# Altium integrated library NXP Semiconductors Standard MOSFETs.IntLib: 477 symbols (part 1 of 14)
Pins are listed as number, name and electrical type; pins without a type are passive.

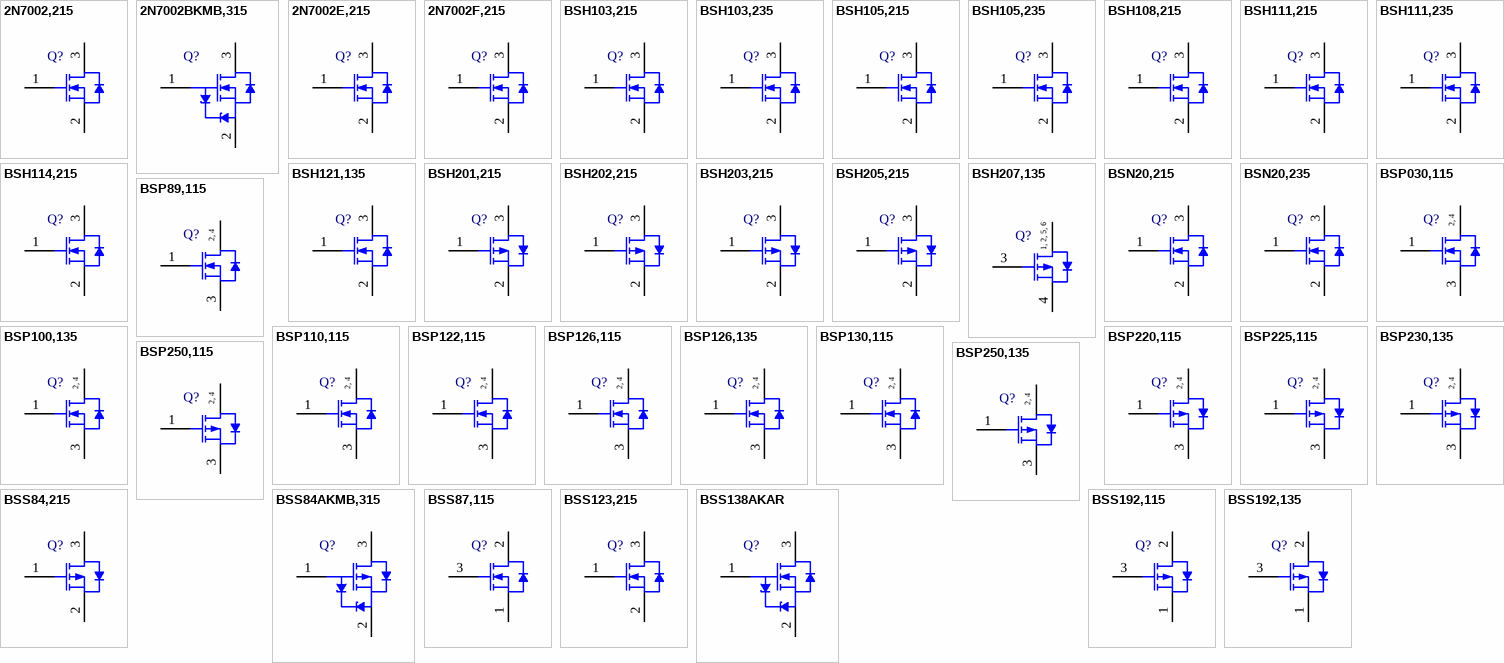
[diagram p0: symbols 2N7002,215 to BSS192,135]

## 2N7002,215
designator Q?
N-Channel Trench MOSFET, 60 V, 0.3 A, 3-Pin SOT23, Tape and Reel; Manufacturer: NXP Semiconductors; PartNumber: 2N7002,215; Channel Type: N; Ciss [typ] (pF): 31; Coss [typ] (pF): 6.8; ID [max] (A): 0.3; Packing: Tape & Reel; Qr [typ] (nC): 30; VDS [max] (V): 60; VGSth [typ] (V): 2; DatasheetVersion: Rev. 7; PackageVersion: 06-03-16, 03/2006; PackageReference: SOT23; PackageDescription: 3-Pin Small Outline Transistor Package, Body 2.9 x 1.3 mm, Pitch 0.95 mm; Supplier 1: Digi-Key; Supplier Part Number 1: 568-1369-2-ND; Supplier 2: Digi-Key; Supplier Part Number 2: 568-1369-1-ND; Supplier 3: Digi-Key; Supplier Part Number 3: 568-1369-6-ND; Supplier 4: Farnell; Supplier Part Number 4: 2315576; Supplier 5: Farnell; Supplier Part Number 5: 1510761; Supplier 6: Farnell; Supplier Part Number 6: 1510761RL; Supplier 7: Newark; Supplier Part Number 7: 75R4879; Supplier 8: Newark; Supplier Part Number 8: 70R9742; Supplier 9: Mouser; Supplier Part Number 9: 771-2N7002-T/R; Mounting Technology: Surface Mount; Code_JEDEC: TO-236AB; ComponentLink1Description: Manufacturer URL; ComponentLink1URL: http://www.nxp.com/; ComponentLink2Description: Datasheet; ComponentLink2URL: http://www.nxp.com/documents/data_sheet/2N7002.pdf; ComponentLink3Description: Package Specification; ComponentLink3URL: http://www.nxp.com/documents/outline_drawing/sot023_po.pdf
footprint NXP-SOT23_N (SOT23, 3-Leads, Body 3x1.4mm, Pitch 0.95mm, IPC Medium Density)
footprint NXP-SOT23_L (SOT23, 3-Leads, Body 3x1.4mm, Pitch 0.95mm, IPC High Density)
footprint NXP-SOT23_M (SOT23, 3-Leads, Body 3x1.4mm, Pitch 0.95mm, IPC Low Density)
pins: 1 G "gate", 2 S "source", 3 D "drain"

## 2N7002BKMB,315
designator Q?
Single N-Channel Trench MOSFET, 60 V, 0.45 A, -55 to 150 degC, 3-Pin SOT883B, Reel; Manufacturer: NXP Semiconductors; PartNumber: 2N7002BKMB,315; Channel Type: N; Ciss [typ] (pF): 33; Coss [typ] (pF): 7; ID [max] (A): 0.45; VDS [max] (V): 60; VGSth [typ] (V): 1.6; DatasheetVersion: Rev. 2; PackageVersion: 12-01-03, 01/2012; PackageReference: SOT883B; PackageDescription: 3-Pin Small Outline No-Lead, Body 0.6 x 1 mm, Pitch 0.35 mm; Supplier 1: Digi-Key; Supplier Part Number 1: 568-10438-2-ND; Supplier 2: Digi-Key; Supplier Part Number 2: 568-10438-1-ND; Supplier 3: Digi-Key; Supplier Part Number 3: 568-10438-6-ND; Supplier 4: Mouser; Supplier Part Number 4: 771-2N7002BKMB315; Packing: Reel; Mounting Technology: Surface Mount; ComponentLink1Description: Manufacturer URL; ComponentLink1URL: http://www.nxp.com/; ComponentLink2Description: Datasheet; ComponentLink2URL: http://www.nxp.com/documents/data_sheet/2N7002BKMB.pdf; ComponentLink3Description: Package Specification; ComponentLink3URL: http://www.nxp.com/documents/outline_drawing/sot883b_po.pdf
footprint NXP-SOT883B_N (SON, 3-Leads, Body 1.05x0.65mm, Pitch 0.35mm, IPC Medium Density)
footprint NXP-SOT883B_L (SON, 3-Leads, Body 1.05x0.65mm, Pitch 0.35mm, IPC High Density)
footprint NXP-SOT883B_M (SON, 3-Leads, Body 1.05x0.65mm, Pitch 0.35mm, IPC Low Density)
pins: 1 G "gate", 2 S "source", 3 D "drain"

## 2N7002E,215
designator Q?
N-Channel TrenchMOS FET, 60 V, 0.385 A, 3-Pin SOT23, Tape and Reel; Manufacturer: NXP Semiconductors; PartNumber: 2N7002E,215; Channel Type: N; Ciss [typ] (pF): 31; Coss [typ] (pF): 6.8; ID [max] (A): 0.385; Packing: Tape & Reel; Qr [typ] (nC): 30; VDS [max] (V): 60; VGSth [typ] (V): 2; DatasheetVersion: Rev. 03; PackageVersion: 06-03-16, 03/2006; PackageReference: SOT23; PackageDescription: 3-Pin Small Outline Transistor Package, Body 2.9 x 1.3 mm, Pitch 0.95 mm; Supplier 1: Digi-Key; Supplier Part Number 1: 568-4858-2-ND; Supplier 2: Digi-Key; Supplier Part Number 2: 568-4858-1-ND; Supplier 3: Digi-Key; Supplier Part Number 3: 568-4858-6-ND; Supplier 4: Farnell; Supplier Part Number 4: 1894721; Supplier 5: Farnell; Supplier Part Number 5: 2319390; Supplier 6: Farnell; Supplier Part Number 6: 1894721RL; Supplier 7: Newark; Supplier Part Number 7: 75R4880; Supplier 8: Newark; Supplier Part Number 8: 70R9744; Supplier 9: Mouser; Supplier Part Number 9: 771-2N7002E-T/R; Mounting Technology: Surface Mount; Code_JEDEC: TO-236AB; ComponentLink1Description: Manufacturer URL; ComponentLink1URL: http://www.nxp.com/; ComponentLink2Description: Datasheet; ComponentLink2URL: http://www.nxp.com/documents/data_sheet/2N7002E.pdf; ComponentLink3Description: Package Specification; ComponentLink3URL: http://www.nxp.com/documents/outline_drawing/sot023_po.pdf
footprint NXP-SOT23_N (SOT23, 3-Leads, Body 3x1.4mm, Pitch 0.95mm, IPC Medium Density)
footprint NXP-SOT23_L (SOT23, 3-Leads, Body 3x1.4mm, Pitch 0.95mm, IPC High Density)
footprint NXP-SOT23_M (SOT23, 3-Leads, Body 3x1.4mm, Pitch 0.95mm, IPC Low Density)
pins: 1 G "gate", 2 S "source", 3 D "drain"

## 2N7002F,215
designator Q?
N-Channel TrenchMOS FET, 60 V, 0.475 A, 3-Pin SOT23, Tape and Reel; Manufacturer: NXP Semiconductors; PartNumber: 2N7002F,215; Channel Type: N; Ciss [typ] (pF): 31; Coss [typ] (pF): 6.8; ID [max] (A): 0.475; Packing: Tape & Reel; Qr [typ] (nC): 30; VDS [max] (V): 60; VGSth [typ] (V): 2; DatasheetVersion: Rev. 03; PackageVersion: 06-03-16, 03/2006; PackageReference: SOT23; PackageDescription: 3-Pin Small Outline Transistor Package, Body 2.9 x 1.3 mm, Pitch 0.95 mm; Supplier 1: Digi-Key; Supplier Part Number 1: 568-5983-2-ND; Supplier 2: Digi-Key; Supplier Part Number 2: 568-5983-1-ND; Supplier 3: Digi-Key; Supplier Part Number 3: 568-5983-6-ND; Supplier 4: Newark; Supplier Part Number 4: 75R4881; Supplier 5: Newark; Supplier Part Number 5: 70R9745; Supplier 6: Mouser; Supplier Part Number 6: 771-2N7002F-T/R; Mounting Technology: Surface Mount; Code_JEDEC: TO-236AB; ComponentLink1Description: Manufacturer URL; ComponentLink1URL: http://www.nxp.com/; ComponentLink2Description: Datasheet; ComponentLink2URL: http://www.nxp.com/documents/data_sheet/2N7002F.pdf; ComponentLink3Description: Package Specification; ComponentLink3URL: http://www.nxp.com/documents/outline_drawing/sot023_po.pdf
footprint NXP-SOT23_N (SOT23, 3-Leads, Body 3x1.4mm, Pitch 0.95mm, IPC Medium Density)
footprint NXP-SOT23_L (SOT23, 3-Leads, Body 3x1.4mm, Pitch 0.95mm, IPC High Density)
footprint NXP-SOT23_M (SOT23, 3-Leads, Body 3x1.4mm, Pitch 0.95mm, IPC Low Density)
pins: 1 G "gate", 2 S "source", 3 D "drain"

## BSH103,215
designator Q?
N-Channel Enhancement Mode MOS Transistor, 30 V, 0.85 A, 3-Pin SOT23, Tape and Reel; Manufacturer: NXP Semiconductors; PartNumber: BSH103,215; Channel Type: N; Ciss [typ] (pF): 83; Coss [typ] (pF): 27; ID [max] (A): 0.85; Packing: Tape & Reel; VDS [max] (V): 30; PackageVersion: 06-03-16, 03/2006; PackageReference: SOT23; PackageDescription: 3-Pin Small Outline Transistor Package, Body 2.9 x 1.3 mm, Pitch 0.95 mm; Supplier 1: Digi-Key; Supplier Part Number 1: 568-5013-2-ND; Supplier 2: Digi-Key; Supplier Part Number 2: 568-5013-1-ND; Supplier 3: Digi-Key; Supplier Part Number 3: 568-5013-6-ND; Supplier 4: Farnell; Supplier Part Number 4: 2336818; Supplier 5: Newark; Supplier Part Number 5: 75R4687; Supplier 6: Newark; Supplier Part Number 6: 70R2910; Supplier 7: Mouser; Supplier Part Number 7: 771-BSH103-T/R; Mounting Technology: Surface Mount; Code_JEDEC: TO-236AB; ComponentLink1Description: Manufacturer URL; ComponentLink1URL: http://www.nxp.com/; ComponentLink2Description: Datasheet; ComponentLink2URL: http://www.nxp.com/documents/data_sheet/BSH103.pdf; ComponentLink3Description: Package Specification; ComponentLink3URL: http://www.nxp.com/documents/outline_drawing/sot023_po.pdf
footprint NXP-SOT23_N (SOT23, 3-Leads, Body 3x1.4mm, Pitch 0.95mm, IPC Medium Density)
footprint NXP-SOT23_L (SOT23, 3-Leads, Body 3x1.4mm, Pitch 0.95mm, IPC High Density)
footprint NXP-SOT23_M (SOT23, 3-Leads, Body 3x1.4mm, Pitch 0.95mm, IPC Low Density)
pins: 1 G "gate", 2 S "source", 3 D "drain"

## BSH103,235
designator Q?
N-Channel Enhancement Mode MOS Transistor, 30 V, 0.85 A, 3-Pin SOT23, Tape and Reel; Manufacturer: NXP Semiconductors; PartNumber: BSH103,235; Channel Type: N; Ciss [typ] (pF): 83; Coss [typ] (pF): 27; ID [max] (A): 0.85; Packing: Tape & Reel; VDS [max] (V): 30; PackageVersion: 06-03-16, 03/2006; PackageReference: SOT23; PackageDescription: 3-Pin Small Outline Transistor Package, Body 2.9 x 1.3 mm, Pitch 0.95 mm; Supplier 1: Digi-Key; Supplier Part Number 1: BSH103,235-ND; Supplier 2: Newark; Supplier Part Number 2: 70R2911; Supplier 3: Mouser; Supplier Part Number 3: 771-BSH103235; Mounting Technology: Surface Mount; Code_JEDEC: TO-236AB; ComponentLink1Description: Manufacturer URL; ComponentLink1URL: http://www.nxp.com/; ComponentLink2Description: Datasheet; ComponentLink2URL: http://www.nxp.com/documents/data_sheet/BSH103.pdf; ComponentLink3Description: Package Specification; ComponentLink3URL: http://www.nxp.com/documents/outline_drawing/sot023_po.pdf
footprint NXP-SOT23_N (SOT23, 3-Leads, Body 3x1.4mm, Pitch 0.95mm, IPC Medium Density)
footprint NXP-SOT23_L (SOT23, 3-Leads, Body 3x1.4mm, Pitch 0.95mm, IPC High Density)
footprint NXP-SOT23_M (SOT23, 3-Leads, Body 3x1.4mm, Pitch 0.95mm, IPC Low Density)
pins: 1 G "gate", 2 S "source", 3 D "drain"

## BSH105,215
designator Q?
N-Channel Enhancement Mode MOS Transistor, 20 V, 1.05 A, -55 to 150 degC, 3-Pin SOT23, Tape and Reel; Manufacturer: NXP Semiconductors; PartNumber: BSH105,215; Channel Type: N; Ciss [typ] (pF): 152; Coss [typ] (pF): 71; ID [max] (A): 1.05; Packing: Tape & Reel; Qr [typ] (nC): 19; VDS [max] (V): 20; VGSth [typ] (V): 0.57; DatasheetVersion: Rev. 1.000; PackageVersion: 06-03-16, 03/2006; PackageReference: SOT23; PackageDescription: 3-Pin Small Outline Transistor Package, Body 2.9 x 1.3 mm, Pitch 0.95 mm; Supplier 1: Digi-Key; Supplier Part Number 1: 568-6215-2-ND; Supplier 2: Digi-Key; Supplier Part Number 2: 568-6215-1-ND; Supplier 3: Digi-Key; Supplier Part Number 3: 568-6215-6-ND; Supplier 4: Farnell; Supplier Part Number 4: 1758066; Supplier 5: Farnell; Supplier Part Number 5: 1758066RL; Supplier 6: Farnell; Supplier Part Number 6: 2371069; Supplier 7: Farnell; Supplier Part Number 7: 2395532; Supplier 8: Newark; Supplier Part Number 8: 79R1829; Supplier 9: Newark; Supplier Part Number 9: 70R2912; Supplier 10: Mouser; Supplier Part Number 10: 771-BSH105215; Mounting Technology: Surface Mount; Code_JEDEC: TO-236AB; ComponentLink1Description: Manufacturer URL; ComponentLink1URL: http://www.nxp.com/; ComponentLink2Description: Datasheet; ComponentLink2URL: http://www.nxp.com/documents/data_sheet/BSH105.pdf; ComponentLink3Description: Package Specification; ComponentLink3URL: http://www.nxp.com/documents/outline_drawing/sot023_po.pdf
footprint NXP-SOT23_N (SOT23, 3-Leads, Body 3x1.4mm, Pitch 0.95mm, IPC Medium Density)
footprint NXP-SOT23_L (SOT23, 3-Leads, Body 3x1.4mm, Pitch 0.95mm, IPC High Density)
footprint NXP-SOT23_M (SOT23, 3-Leads, Body 3x1.4mm, Pitch 0.95mm, IPC Low Density)
pins: 1 G "gate", 2 S "source", 3 D "drain"

## BSH105,235
designator Q?
N-Channel Enhancement Mode MOS Transistor, 20 V, 1.05 A, -55 to 150 degC, 3-Pin SOT23, Tape and Reel; Manufacturer: NXP Semiconductors; PartNumber: BSH105,235; Channel Type: N; Ciss [typ] (pF): 152; Coss [typ] (pF): 71; ID [max] (A): 1.05; Packing: Tape & Reel; Qr [typ] (nC): 19; VDS [max] (V): 20; VGSth [typ] (V): 0.57; DatasheetVersion: Rev. 1.000; PackageVersion: 06-03-16, 03/2006; PackageReference: SOT23; PackageDescription: 3-Pin Small Outline Transistor Package, Body 2.9 x 1.3 mm, Pitch 0.95 mm; Supplier 1: Digi-Key; Supplier Part Number 1: BSH105,235-ND; Supplier 2: Newark; Supplier Part Number 2: 70R2913; Supplier 3: Mouser; Supplier Part Number 3: 771-BSH105235; Mounting Technology: Surface Mount; Code_JEDEC: TO-236AB; ComponentLink1Description: Manufacturer URL; ComponentLink1URL: http://www.nxp.com/; ComponentLink2Description: Datasheet; ComponentLink2URL: http://www.nxp.com/documents/data_sheet/BSH105.pdf; ComponentLink3Description: Package Specification; ComponentLink3URL: http://www.nxp.com/documents/outline_drawing/sot023_po.pdf
footprint NXP-SOT23_N (SOT23, 3-Leads, Body 3x1.4mm, Pitch 0.95mm, IPC Medium Density)
footprint NXP-SOT23_L (SOT23, 3-Leads, Body 3x1.4mm, Pitch 0.95mm, IPC High Density)
footprint NXP-SOT23_M (SOT23, 3-Leads, Body 3x1.4mm, Pitch 0.95mm, IPC Low Density)
pins: 1 G "gate", 2 S "source", 3 D "drain"

## BSH108,215
designator Q?
N-Channel Enhancement Mode Field-Effect Transistor, 30 V, 1.9 A, 3-Pin SOT23, Tape and Reel; Manufacturer: NXP Semiconductors; PartNumber: BSH108,215; Channel Type: N; Ciss [typ] (pF): 190; Coss [typ] (pF): 70; ID [max] (A): 1.9; Packing: Tape & Reel; Qr [typ] (nC): 20; VDS [max] (V): 30; VGSth [typ] (V): 1.5; DatasheetVersion: Rev. 02; PackageVersion: 06-03-16, 03/2006; PackageReference: SOT23; PackageDescription: 3-Pin Small Outline Transistor Package, Body 2.9 x 1.3 mm, Pitch 0.95 mm; Supplier 1: Digi-Key; Supplier Part Number 1: 568-6216-2-ND; Supplier 2: Digi-Key; Supplier Part Number 2: 568-6216-1-ND; Supplier 3: Digi-Key; Supplier Part Number 3: 568-6216-6-ND; Supplier 4: Farnell; Supplier Part Number 4: 1758067; Supplier 5: Farnell; Supplier Part Number 5: 1758067RL; Supplier 6: Farnell; Supplier Part Number 6: 2371070; Supplier 7: Farnell; Supplier Part Number 7: 2134830; Supplier 8: Newark; Supplier Part Number 8: 75R4688; Supplier 9: Newark; Supplier Part Number 9: 70R2914; Supplier 10: Mouser; Supplier Part Number 10: 771-BSH108215; Mounting Technology: Surface Mount; Code_JEDEC: TO-236AB; ComponentLink1Description: Manufacturer URL; ComponentLink1URL: http://www.nxp.com/; ComponentLink2Description: Datasheet; ComponentLink2URL: http://www.nxp.com/documents/data_sheet/BSH108.pdf; ComponentLink3Description: Package Specification; ComponentLink3URL: http://www.nxp.com/documents/outline_drawing/sot023_po.pdf
footprint NXP-SOT23_N (SOT23, 3-Leads, Body 3x1.4mm, Pitch 0.95mm, IPC Medium Density)
footprint NXP-SOT23_L (SOT23, 3-Leads, Body 3x1.4mm, Pitch 0.95mm, IPC High Density)
footprint NXP-SOT23_M (SOT23, 3-Leads, Body 3x1.4mm, Pitch 0.95mm, IPC Low Density)
pins: 1 G "gate", 2 S "source", 3 D "drain"

## BSH111,215
designator Q?
N-Channel Enhancement Mode Field-Effect Transistor, 55 V, 0.335 A, 3-Pin SOT23, Tape and Reel; Manufacturer: NXP Semiconductors; PartNumber: BSH111,215; Channel Type: N; Ciss [typ] (pF): 17; Coss [typ] (pF): 7; ID [max] (A): 0.335; Packing: Tape & Reel; Qr [typ] (nC): 30; VDS [max] (V): 55; VGSth [typ] (V): 1; DatasheetVersion: Rev. 02; PackageVersion: 06-03-16, 03/2006; PackageReference: SOT23; PackageDescription: 3-Pin Small Outline Transistor Package, Body 2.9 x 1.3 mm, Pitch 0.95 mm; Supplier 1: Digi-Key; Supplier Part Number 1: 568-1657-2-ND; Supplier 2: Digi-Key; Supplier Part Number 2: 568-1657-1-ND; Supplier 3: Digi-Key; Supplier Part Number 3: 568-1657-6-ND; Supplier 4: Farnell; Supplier Part Number 4: 1510762; Supplier 5: Farnell; Supplier Part Number 5: 1510762RL; Supplier 6: Farnell; Supplier Part Number 6: 2336817; Supplier 7: Farnell; Supplier Part Number 7: 1826006; Supplier 8: Newark; Supplier Part Number 8: 75R4689; Supplier 9: Newark; Supplier Part Number 9: 70R2915; Supplier 10: Mouser; Supplier Part Number 10: 771-BSH111-T/R; Mounting Technology: Surface Mount; Code_JEDEC: TO-236AB; ComponentLink1Description: Manufacturer URL; ComponentLink1URL: http://www.nxp.com/; ComponentLink2Description: Datasheet; ComponentLink2URL: http://www.nxp.com/documents/data_sheet/BSH111.pdf; ComponentLink3Description: Package Specification; ComponentLink3URL: http://www.nxp.com/documents/outline_drawing/sot023_po.pdf
footprint NXP-SOT23_N (SOT23, 3-Leads, Body 3x1.4mm, Pitch 0.95mm, IPC Medium Density)
footprint NXP-SOT23_L (SOT23, 3-Leads, Body 3x1.4mm, Pitch 0.95mm, IPC High Density)
footprint NXP-SOT23_M (SOT23, 3-Leads, Body 3x1.4mm, Pitch 0.95mm, IPC Low Density)
pins: 1 G "gate", 2 S "source", 3 D "drain"

## BSH111,235
designator Q?
N-Channel Enhancement Mode Field-Effect Transistor, 55 V, 0.335 A, 3-Pin SOT23, Tape and Reel; Manufacturer: NXP Semiconductors; PartNumber: BSH111,235; Channel Type: N; Ciss [typ] (pF): 17; Coss [typ] (pF): 7; ID [max] (A): 0.335; Packing: Tape & Reel; Qr [typ] (nC): 30; VDS [max] (V): 55; VGSth [typ] (V): 1; DatasheetVersion: Rev. 02; PackageVersion: 06-03-16, 03/2006; PackageReference: SOT23; PackageDescription: 3-Pin Small Outline Transistor Package, Body 2.9 x 1.3 mm, Pitch 0.95 mm; Supplier 1: Digi-Key; Supplier Part Number 1: BSH111,235-ND; Supplier 2: Newark; Supplier Part Number 2: 70R2916; Supplier 3: Mouser; Supplier Part Number 3: 771-BSH111235; Mounting Technology: Surface Mount; Code_JEDEC: TO-236AB; ComponentLink1Description: Manufacturer URL; ComponentLink1URL: http://www.nxp.com/; ComponentLink2Description: Datasheet; ComponentLink2URL: http://www.nxp.com/documents/data_sheet/BSH111.pdf; ComponentLink3Description: Package Specification; ComponentLink3URL: http://www.nxp.com/documents/outline_drawing/sot023_po.pdf
footprint NXP-SOT23_N (SOT23, 3-Leads, Body 3x1.4mm, Pitch 0.95mm, IPC Medium Density)
footprint NXP-SOT23_L (SOT23, 3-Leads, Body 3x1.4mm, Pitch 0.95mm, IPC High Density)
footprint NXP-SOT23_M (SOT23, 3-Leads, Body 3x1.4mm, Pitch 0.95mm, IPC Low Density)
pins: 1 G "gate", 2 S "source", 3 D "drain"

## BSH114,215
designator Q?
N-Channel Enhancement Mode Field Effect Transistor, 100 V, 3-Pin SOT23, Tape and Reel; Manufacturer: NXP Semiconductors; PartNumber: BSH114,215; Channel Type: N; Ciss [typ] (pF): 138; Coss [typ] (pF): 21; Packing: Tape & Reel; Qr [typ] (nC): 37; VDS [max] (V): 100; VGSth [typ] (V): 3; DatasheetVersion: Rev. 01; PackageVersion: 06-03-16, 03/2006; PackageReference: SOT23; PackageDescription: 3-Pin Small Outline Transistor Package, Body 2.9 x 1.3 mm, Pitch 0.95 mm; Supplier 1: Digi-Key; Supplier Part Number 1: 568-8025-2-ND; Supplier 2: Digi-Key; Supplier Part Number 2: 568-8025-1-ND; Supplier 3: Digi-Key; Supplier Part Number 3: 568-8025-6-ND; Supplier 4: Farnell; Supplier Part Number 4: 1758071; Supplier 5: Farnell; Supplier Part Number 5: 1758071RL; Supplier 6: Newark; Supplier Part Number 6: 79R1830; Supplier 7: Newark; Supplier Part Number 7: 70R2918; Supplier 8: Mouser; Supplier Part Number 8: 771-BSH114215; Mounting Technology: Surface Mount; Code_JEDEC: TO-236AB; ComponentLink1Description: Manufacturer URL; ComponentLink1URL: http://www.nxp.com/; ComponentLink2Description: Datasheet; ComponentLink2URL: http://www.nxp.com/documents/data_sheet/BSH114.pdf; ComponentLink3Description: Package Specification; ComponentLink3URL: http://www.nxp.com/documents/outline_drawing/sot023_po.pdf
footprint NXP-SOT23_N (SOT23, 3-Leads, Body 3x1.4mm, Pitch 0.95mm, IPC Medium Density)
footprint NXP-SOT23_L (SOT23, 3-Leads, Body 3x1.4mm, Pitch 0.95mm, IPC High Density)
footprint NXP-SOT23_M (SOT23, 3-Leads, Body 3x1.4mm, Pitch 0.95mm, IPC Low Density)
pins: 1 G "gate", 2 S "source", 3 D "drain"

## BSH121,135
designator Q?
N-Channel Enhancement Mode Field-Effect Transistor, 55 V, 0.3 A, 3-Pin SOT323, Tape and Reel; Manufacturer: NXP Semiconductors; PartNumber: BSH121,135; Channel Type: N; Ciss [typ] (pF): 17; Coss [typ] (pF): 7; ID [max] (A): 0.3; Packing: Tape & Reel; Qr [typ] (nC): 30; VDS [max] (V): 55; VGSth [typ] (V): 1; DatasheetVersion: Rev. 01; PackageVersion: 06-03-16, 03/2006; PackageReference: SOT323; PackageDescription: 3-Pin Small Outline Transistor Package, Body 2 x 1.25 mm, Pitch 0.65 mm; Supplier 1: Digi-Key; Supplier Part Number 1: 568-11040-1-ND; Supplier 2: Digi-Key; Supplier Part Number 2: 568-11040-6-ND; Supplier 3: Digi-Key; Supplier Part Number 3: 568-11040-2-ND; Supplier 4: Farnell; Supplier Part Number 4: 1758072RL; Supplier 5: Farnell; Supplier Part Number 5: 1758072; Supplier 6: Farnell; Supplier Part Number 6: 2395533; Supplier 7: Newark; Supplier Part Number 7: 79R1831; Supplier 8: Mouser; Supplier Part Number 8: 771-BSH121135; Mounting Technology: Surface Mount; Code_JEITA: SC-70; ComponentLink1Description: Manufacturer URL; ComponentLink1URL: http://www.nxp.com/; ComponentLink2Description: Datasheet; ComponentLink2URL: http://www.nxp.com/documents/data_sheet/BSH121.pdf; ComponentLink3Description: Package Specification; ComponentLink3URL: http://www.nxp.com/documents/outline_drawing/sot323_po.pdf
footprint NXP-SOT323_N (SOT23, 3-Leads, Body 2.2x1.35mm, Pitch 0.65mm, IPC Medium Density)
footprint NXP-SOT323_L (SOT23, 3-Leads, Body 2.2x1.35mm, Pitch 0.65mm, IPC High Density)
footprint NXP-SOT323_M (SOT23, 3-Leads, Body 2.2x1.35mm, Pitch 0.65mm, IPC Low Density)
pins: 1 G "gate", 2 S "source", 3 D "drain"

## BSH201,215
designator Q?
P-Channel Enhancement Mode MOS Transistor, -60 V, -0.3 A, -55 to 150 degC, 3-Pin SOT23, Tape and Reel; Manufacturer: NXP Semiconductors; PartNumber: BSH201,215; Channel Type: P; Ciss [typ] (pF): 70; Coss [typ] (pF): 15; Packing: Tape & Reel; Qr [typ] (nC): 58; VGSth [typ] (V): -1.9; DatasheetVersion: Rev. 1.000; PackageVersion: 06-03-16, 03/2006; PackageReference: SOT23; PackageDescription: 3-Pin Small Outline Transistor Package, Body 2.9 x 1.3 mm, Pitch 0.95 mm; Supplier 1: Digi-Key; Supplier Part Number 1: 568-6217-2-ND; Supplier 2: Digi-Key; Supplier Part Number 2: 568-6217-1-ND; Supplier 3: Digi-Key; Supplier Part Number 3: 568-6217-6-ND; Supplier 4: Farnell; Supplier Part Number 4: 1758073; Supplier 5: Farnell; Supplier Part Number 5: 1758073RL; Supplier 6: Newark; Supplier Part Number 6: 70R2920; Supplier 7: Newark; Supplier Part Number 7: 79R1832; Supplier 8: Newark; Supplier Part Number 8: 34R3012; Supplier 9: Mouser; Supplier Part Number 9: 771-BSH201215; ID [max] (A): -0.3; VDS [max] (V): -60; Mounting Technology: Surface Mount; Code_JEDEC: TO-236AB; ComponentLink1Description: Manufacturer URL; ComponentLink1URL: http://www.nxp.com/; ComponentLink2Description: Datasheet; ComponentLink2URL: http://www.nxp.com/documents/data_sheet/BSH201.pdf; ComponentLink3Description: Package Specification; ComponentLink3URL: http://www.nxp.com/documents/outline_drawing/sot023_po.pdf
footprint NXP-SOT23_N (SOT23, 3-Leads, Body 3x1.4mm, Pitch 0.95mm, IPC Medium Density)
footprint NXP-SOT23_L (SOT23, 3-Leads, Body 3x1.4mm, Pitch 0.95mm, IPC High Density)
footprint NXP-SOT23_M (SOT23, 3-Leads, Body 3x1.4mm, Pitch 0.95mm, IPC Low Density)
pins: 1 G "gate", 2 S "source", 3 D "drain"

## BSH202,215
designator Q?
P-Channel Enhancement Mode MOS Transistor, -30 V, -0.52 A, -55 to 150 degC, 3-Pin SOT23, Tape and Reel; Manufacturer: NXP Semiconductors; PartNumber: BSH202,215; Channel Type: P; Ciss [typ] (pF): 80; Coss [typ] (pF): 27; Packing: Tape & Reel; Qr [typ] (nC): 28; VGSth [typ] (V): -1.9; DatasheetVersion: Rev. 1.000; PackageVersion: 06-03-16, 03/2006; PackageReference: SOT23; PackageDescription: 3-Pin Small Outline Transistor Package, Body 2.9 x 1.3 mm, Pitch 0.95 mm; Supplier 1: Digi-Key; Supplier Part Number 1: 568-8026-2-ND; Supplier 2: Digi-Key; Supplier Part Number 2: 568-8026-1-ND; Supplier 3: Digi-Key; Supplier Part Number 3: 568-8026-6-ND; Supplier 4: Newark; Supplier Part Number 4: 79R1833; Supplier 5: Mouser; Supplier Part Number 5: 771-BSH202215; ID [max] (A): -0.52; VDS [max] (V): -30; Mounting Technology: Surface Mount; Code_JEDEC: TO-236AB; ComponentLink1Description: Manufacturer URL; ComponentLink1URL: http://www.nxp.com/; ComponentLink2Description: Datasheet; ComponentLink2URL: http://www.nxp.com/documents/data_sheet/BSH202.pdf; ComponentLink3Description: Package Specification; ComponentLink3URL: http://www.nxp.com/documents/outline_drawing/sot023_po.pdf
footprint NXP-SOT23_N (SOT23, 3-Leads, Body 3x1.4mm, Pitch 0.95mm, IPC Medium Density)
footprint NXP-SOT23_L (SOT23, 3-Leads, Body 3x1.4mm, Pitch 0.95mm, IPC High Density)
footprint NXP-SOT23_M (SOT23, 3-Leads, Body 3x1.4mm, Pitch 0.95mm, IPC Low Density)
pins: 1 G "gate", 2 S "source", 3 D "drain"

## BSH203,215
designator Q?
P-Channel Enhancement Mode MOS Transistor, -30 V, -0.47 A, -55 to 150 degC, 3-Pin SOT23, Tape and Reel; Manufacturer: NXP Semiconductors; PartNumber: BSH203,215; Channel Type: P; Ciss [typ] (pF): 110; Coss [typ] (pF): 27; Packing: Tape & Reel; Qr [typ] (nC): 28; VGSth [typ] (V): -0.68; DatasheetVersion: Rev. 1.000; PackageVersion: 06-03-16, 03/2006; PackageReference: SOT23; PackageDescription: 3-Pin Small Outline Transistor Package, Body 2.9 x 1.3 mm, Pitch 0.95 mm; Supplier 1: Digi-Key; Supplier Part Number 1: 568-8027-2-ND; Supplier 2: Digi-Key; Supplier Part Number 2: 568-8027-1-ND; Supplier 3: Digi-Key; Supplier Part Number 3: 568-8027-6-ND; Supplier 4: Newark; Supplier Part Number 4: 70R2922; Supplier 5: Newark; Supplier Part Number 5: 79R1834; Supplier 6: Mouser; Supplier Part Number 6: 771-BSH203215; ID [max] (A): -0.47; VDS [max] (V): -30; Mounting Technology: Surface Mount; Code_JEDEC: TO-236AB; ComponentLink1Description: Manufacturer URL; ComponentLink1URL: http://www.nxp.com/; ComponentLink2Description: Datasheet; ComponentLink2URL: http://www.nxp.com/documents/data_sheet/BSH203.pdf; ComponentLink3Description: Package Specification; ComponentLink3URL: http://www.nxp.com/documents/outline_drawing/sot023_po.pdf
footprint NXP-SOT23_N (SOT23, 3-Leads, Body 3x1.4mm, Pitch 0.95mm, IPC Medium Density)
footprint NXP-SOT23_L (SOT23, 3-Leads, Body 3x1.4mm, Pitch 0.95mm, IPC High Density)
footprint NXP-SOT23_M (SOT23, 3-Leads, Body 3x1.4mm, Pitch 0.95mm, IPC Low Density)
pins: 1 G "gate", 2 S "source", 3 D "drain"

## BSH205,215
designator Q?
P-Channel Enhancement Mode MOS Transistor, -12 V, -0.75 A, -55 to 150 degC, 3-Pin SOT23, Tape and Reel; Manufacturer: NXP Semiconductors; PartNumber: BSH205,215; Channel Type: P; Ciss [typ] (pF): 200; Coss [typ] (pF): 95; Packing: Tape & Reel; Qr [typ] (nC): 69; VGSth [typ] (V): -0.68; DatasheetVersion: Rev. 1.000; PackageVersion: 06-03-16, 03/2006; PackageReference: SOT23; PackageDescription: 3-Pin Small Outline Transistor Package, Body 2.9 x 1.3 mm, Pitch 0.95 mm; Supplier 1: Digi-Key; Supplier Part Number 1: 568-8028-2-ND; Supplier 2: Digi-Key; Supplier Part Number 2: 568-8028-1-ND; Supplier 3: Digi-Key; Supplier Part Number 3: 568-8028-6-ND; Supplier 4: Farnell; Supplier Part Number 4: 2101402; Supplier 5: Newark; Supplier Part Number 5: 79R1835; Supplier 6: Mouser; Supplier Part Number 6: 771-BSH205215; ID [max] (A): -0.75; VDS [max] (V): -12; Mounting Technology: Surface Mount; Code_JEDEC: TO-236AB; ComponentLink1Description: Manufacturer URL; ComponentLink1URL: http://www.nxp.com/; ComponentLink2Description: Datasheet; ComponentLink2URL: http://www.nxp.com/documents/data_sheet/BSH205.pdf; ComponentLink3Description: Package Specification; ComponentLink3URL: http://www.nxp.com/documents/outline_drawing/sot023_po.pdf
footprint NXP-SOT23_N (SOT23, 3-Leads, Body 3x1.4mm, Pitch 0.95mm, IPC Medium Density)
footprint NXP-SOT23_L (SOT23, 3-Leads, Body 3x1.4mm, Pitch 0.95mm, IPC High Density)
footprint NXP-SOT23_M (SOT23, 3-Leads, Body 3x1.4mm, Pitch 0.95mm, IPC Low Density)
pins: 1 G "gate", 2 S "source", 3 D "drain"

## BSH207,135
designator Q?
P-Channel Enhancement Mode MOS Transistor, -12 V, -1.52 A, -55 to 150 degC, 6-Pin SOT457, Tape and Reel; Manufacturer: NXP Semiconductors; PartNumber: BSH207,135; Channel Type: P; Ciss [typ] (pF): 500; Coss [typ] (pF): 210; Packing: Tape & Reel; Qr [typ] (nC): 69; VGSth [typ] (V): -0.6; DatasheetVersion: Rev. 1.000; PackageVersion: 06-03-16, 03/2006; PackageReference: SOT457; PackageDescription: 6-Pin Thin Small Outline Package, Body 2.9 x 1.5 mm, Pitch 0.95 mm; Supplier 1: Digi-Key; Supplier Part Number 1: 568-11041-2-ND; Supplier 2: Digi-Key; Supplier Part Number 2: 568-11041-1-ND; Supplier 3: Digi-Key; Supplier Part Number 3: 568-11041-6-ND; Supplier 4: Farnell; Supplier Part Number 4: 1758076; Supplier 5: Farnell; Supplier Part Number 5: 1758076RL; Supplier 6: Newark; Supplier Part Number 6: 79R1836; Supplier 7: Mouser; Supplier Part Number 7: 771-BSH207135; ID [max] (A): -1.52; VDS [max] (V): -12; Mounting Technology: Surface Mount; Code_JEITA: SC-74; ComponentLink1Description: Manufacturer URL; ComponentLink1URL: http://www.nxp.com/; ComponentLink2Description: Datasheet; ComponentLink2URL: http://www.nxp.com/documents/data_sheet/BSH207.pdf; ComponentLink3Description: Package Specification; ComponentLink3URL: http://www.nxp.com/documents/outline_drawing/sot457_po.pdf
footprint NXP-SOT457_N (SOP, 6-Leads, Body 3.1x1.7mm, Pitch 0.95mm, IPC Medium Density)
footprint NXP-SOT457_L (SOP, 6-Leads, Body 3.1x1.7mm, Pitch 0.95mm, IPC High Density)
footprint NXP-SOT457_M (SOP, 6-Leads, Body 3.1x1.7mm, Pitch 0.95mm, IPC Low Density)
pins: 1 D "drain", 2 D "drain", 3 G "gate", 4 S "source", 5 D "drain", 6 D "drain"
text: 1, 2, 5, 6

## BSN20,215
designator Q?
N-Channel Enhancement Mode Field-Effect Transistor, 50 V, 0.173 A, 3-Pin SOT23, Tape and Reel; Manufacturer: NXP Semiconductors; PartNumber: BSN20,215; Channel Type: N; Ciss [typ] (pF): 17; Coss [typ] (pF): 7; ID [max] (A): 0.173; Packing: Tape & Reel; Qr [typ] (nC): 30; VDS [max] (V): 50; VGSth [typ] (V): 1; DatasheetVersion: Rev. 03; PackageVersion: 06-03-16, 03/2006; PackageReference: SOT23; PackageDescription: 3-Pin Small Outline Transistor Package, Body 2.9 x 1.3 mm, Pitch 0.95 mm; Supplier 1: Digi-Key; Supplier Part Number 1: 568-1658-2-ND; Supplier 2: Digi-Key; Supplier Part Number 2: 568-1658-1-ND; Supplier 3: Digi-Key; Supplier Part Number 3: 568-1658-6-ND; Supplier 4: Farnell; Supplier Part Number 4: 2336815; Supplier 5: Farnell; Supplier Part Number 5: 1081309RL; Supplier 6: Farnell; Supplier Part Number 6: 1081309; Supplier 7: Newark; Supplier Part Number 7: 75R4691; Supplier 8: Newark; Supplier Part Number 8: 70R2925; Supplier 9: Mouser; Supplier Part Number 9: 771-BSN20-T/R; Mounting Technology: Surface Mount; Code_JEDEC: TO-236AB; ComponentLink1Description: Manufacturer URL; ComponentLink1URL: http://www.nxp.com/; ComponentLink2Description: Datasheet; ComponentLink2URL: http://www.nxp.com/documents/data_sheet/BSN20.pdf; ComponentLink3Description: Package Specification; ComponentLink3URL: http://www.nxp.com/documents/outline_drawing/sot023_po.pdf
footprint NXP-SOT23_N (SOT23, 3-Leads, Body 3x1.4mm, Pitch 0.95mm, IPC Medium Density)
footprint NXP-SOT23_L (SOT23, 3-Leads, Body 3x1.4mm, Pitch 0.95mm, IPC High Density)
footprint NXP-SOT23_M (SOT23, 3-Leads, Body 3x1.4mm, Pitch 0.95mm, IPC Low Density)
pins: 1 G "gate", 2 S "source", 3 D "drain"

## BSN20,235
designator Q?
N-Channel Enhancement Mode Field-Effect Transistor, 50 V, 0.173 A, 3-Pin SOT23, Tape and Reel; Manufacturer: NXP Semiconductors; PartNumber: BSN20,235; Channel Type: N; Ciss [typ] (pF): 17; Coss [typ] (pF): 7; ID [max] (A): 0.173; Packing: Tape & Reel; Qr [typ] (nC): 30; VDS [max] (V): 50; VGSth [typ] (V): 1; DatasheetVersion: Rev. 03; PackageVersion: 06-03-16, 03/2006; PackageReference: SOT23; PackageDescription: 3-Pin Small Outline Transistor Package, Body 2.9 x 1.3 mm, Pitch 0.95 mm; Supplier 1: Digi-Key; Supplier Part Number 1: BSN20,235-ND; Supplier 2: Mouser; Supplier Part Number 2: 771-BSN20235; Mounting Technology: Surface Mount; Code_JEDEC: TO-236AB; ComponentLink1Description: Manufacturer URL; ComponentLink1URL: http://www.nxp.com/; ComponentLink2Description: Datasheet; ComponentLink2URL: http://www.nxp.com/documents/data_sheet/BSN20.pdf; ComponentLink3Description: Package Specification; ComponentLink3URL: http://www.nxp.com/documents/outline_drawing/sot023_po.pdf
footprint NXP-SOT23_N (SOT23, 3-Leads, Body 3x1.4mm, Pitch 0.95mm, IPC Medium Density)
footprint NXP-SOT23_L (SOT23, 3-Leads, Body 3x1.4mm, Pitch 0.95mm, IPC High Density)
footprint NXP-SOT23_M (SOT23, 3-Leads, Body 3x1.4mm, Pitch 0.95mm, IPC Low Density)
pins: 1 G "gate", 2 S "source", 3 D "drain"

## BSP030,115
designator Q?
N-Channel Enhancement Mode Field-Effect Transistor, 30 V, 10 A, 4-Pin SOT223, Tape and Reel; Manufacturer: NXP Semiconductors; PartNumber: BSP030,115; Channel Type: N; Ciss [typ] (pF): 770; Coss [typ] (pF): 265; ID [max] (A): 10; Packing: Tape & Reel; Qr [typ] (nC): 150; VDS [max] (V): 30; VGSth [typ] (V): 2; DatasheetVersion: Rev. 04; PackageVersion: 06-03-16, 03/2006; PackageReference: SOT223; PackageDescription: 4-Pin Small Outline Transistor Package, Body 6.5 x 3.5 mm, Pitch 2.3 mm; Supplier 1: Digi-Key; Supplier Part Number 1: 568-6218-2-ND; Supplier 2: Digi-Key; Supplier Part Number 2: 568-6218-1-ND; Supplier 3: Digi-Key; Supplier Part Number 3: 568-6218-6-ND; Supplier 4: Farnell; Supplier Part Number 4: 1758077; Supplier 5: Farnell; Supplier Part Number 5: 1758077RL; Supplier 6: Farnell; Supplier Part Number 6: 2395534; Supplier 7: Newark; Supplier Part Number 7: 79R1837; Supplier 8: Mouser; Supplier Part Number 8: 771-BSP030115; Mounting Technology: Surface Mount; Code_JEITA: SC-73; ComponentLink1Description: Manufacturer URL; ComponentLink1URL: http://www.nxp.com/; ComponentLink2Description: Datasheet; ComponentLink2URL: http://www.nxp.com/documents/data_sheet/BSP030.pdf; ComponentLink3Description: Package Specification; ComponentLink3URL: http://www.nxp.com/documents/outline_drawing/sot223_po.pdf
footprint NXP-SOT223_N (SOT223, 4-Leads, Body 6.7x3.7mm, Pitch 2.3mm, IPC Medium Density)
footprint NXP-SOT223_L (SOT223, 4-Leads, Body 6.7x3.7mm, Pitch 2.3mm, IPC High Density)
footprint NXP-SOT223_M (SOT223, 4-Leads, Body 6.7x3.7mm, Pitch 2.3mm, IPC Low Density)
pins: 1 G "gate", 2 D "drain", 3 S "source", 4 D "drain"
text: 2, 4

## BSP89,115
designator Q?
N-Channel Enhancement Mode Vertical D-MOS Transistor, 240 V, 0.375 A, 4-Pin SOT223, Tape and Reel; Manufacturer: NXP Semiconductors; PartNumber: BSP89,115; Channel Type: N; Ciss [typ] (pF): 100; Coss [typ] (pF): 20; ID [max] (A): 0.375; Packing: Tape & Reel; VDS [max] (V): 240; PackageVersion: 06-03-16, 03/2006; PackageReference: SOT223; PackageDescription: 4-Pin Small Outline Transistor Package, Body 6.5 x 3.5 mm, Pitch 2.3 mm; Supplier 1: Digi-Key; Supplier Part Number 1: 568-1769-2-ND; Supplier 2: Digi-Key; Supplier Part Number 2: 568-1769-1-ND; Supplier 3: Digi-Key; Supplier Part Number 3: 568-1769-6-ND; Supplier 4: Farnell; Supplier Part Number 4: 1758087; Supplier 5: Farnell; Supplier Part Number 5: 1758087RL; Supplier 6: Newark; Supplier Part Number 6: 34R3035; Supplier 7: Newark; Supplier Part Number 7: 70R2951; Supplier 8: Mouser; Supplier Part Number 8: 771-BSP89-T/R; Mounting Technology: Surface Mount; Code_JEITA: SC-73; ComponentLink1Description: Manufacturer URL; ComponentLink1URL: http://www.nxp.com/; ComponentLink2Description: Datasheet; ComponentLink2URL: http://www.nxp.com/documents/data_sheet/BSP89.pdf; ComponentLink3Description: Package Specification; ComponentLink3URL: http://www.nxp.com/documents/outline_drawing/sot223_po.pdf
footprint NXP-SOT223_N (SOT223, 4-Leads, Body 6.7x3.7mm, Pitch 2.3mm, IPC Medium Density)
footprint NXP-SOT223_L (SOT223, 4-Leads, Body 6.7x3.7mm, Pitch 2.3mm, IPC High Density)
footprint NXP-SOT223_M (SOT223, 4-Leads, Body 6.7x3.7mm, Pitch 2.3mm, IPC Low Density)
pins: 1 G "gate", 2 D "drain", 3 S "source", 4 D "drain"
text: 2, 4

## BSP100,135
designator Q?
N-Channel Enhancement Mode TrenchMOS(TM) Transistor, 30 V, 4-Pin SOT223, Tape and Reel; Manufacturer: NXP Semiconductors; PartNumber: BSP100,135; Channel Type: N; Ciss [typ] (pF): 250; Coss [typ] (pF): 88; Packing: Tape & Reel; Qr [typ] (nC): 55; VDS [max] (V): 30; VGSth [typ] (V): 2; DatasheetVersion: Rev 1.000; PackageVersion: 06-03-16, 03/2006; PackageReference: SOT223; PackageDescription: 4-Pin Small Outline Transistor Package, Body 6.5 x 3.5 mm, Pitch 2.3 mm; Supplier 1: Digi-Key; Supplier Part Number 1: 568-6956-2-ND; Supplier 2: Digi-Key; Supplier Part Number 2: 568-6956-1-ND; Supplier 3: Digi-Key; Supplier Part Number 3: 568-6956-6-ND; Supplier 4: Newark; Supplier Part Number 4: 79R1838; Supplier 5: Mouser; Supplier Part Number 5: 771-BSP100135; Mounting Technology: Surface Mount; Code_JEITA: SC-73; ComponentLink1Description: Manufacturer URL; ComponentLink1URL: http://www.nxp.com/; ComponentLink2Description: Datasheet; ComponentLink2URL: http://www.nxp.com/documents/data_sheet/BSP100.pdf; ComponentLink3Description: Package Specification; ComponentLink3URL: http://www.nxp.com/documents/outline_drawing/sot223_po.pdf
footprint NXP-SOT223_N (SOT223, 4-Leads, Body 6.7x3.7mm, Pitch 2.3mm, IPC Medium Density)
footprint NXP-SOT223_L (SOT223, 4-Leads, Body 6.7x3.7mm, Pitch 2.3mm, IPC High Density)
footprint NXP-SOT223_M (SOT223, 4-Leads, Body 6.7x3.7mm, Pitch 2.3mm, IPC Low Density)
pins: 1 G "gate", 2 D "drain", 3 S "source", 4 D "drain"
text: 2, 4

## BSP110,115
designator Q?
N-Channel Enhancement Mode Field-Effect Transistor, 100 V, 0.52 A, 4-Pin SOT223, Tape and Reel; Manufacturer: NXP Semiconductors; PartNumber: BSP110,115; Channel Type: N; Ciss [typ] (pF): 25; Coss [typ] (pF): 8.5; ID [max] (A): 0.52; Packing: Tape & Reel; Qr [typ] (nC): 30; VDS [max] (V): 100; VGSth [typ] (V): 2; DatasheetVersion: Rev. 03; PackageVersion: 06-03-16, 03/2006; PackageReference: SOT223; PackageDescription: 4-Pin Small Outline Transistor Package, Body 6.5 x 3.5 mm, Pitch 2.3 mm; Supplier 1: Digi-Key; Supplier Part Number 1: 568-6812-2-ND; Supplier 2: Digi-Key; Supplier Part Number 2: 568-6812-1-ND; Supplier 3: Digi-Key; Supplier Part Number 3: 568-6812-6-ND; Supplier 4: Farnell; Supplier Part Number 4: 1758078RL; Supplier 5: Farnell; Supplier Part Number 5: 1758078; Supplier 6: Farnell; Supplier Part Number 6: 2135149; Supplier 7: Newark; Supplier Part Number 7: 75R4692; Supplier 8: Newark; Supplier Part Number 8: 34R3017; Supplier 9: Mouser; Supplier Part Number 9: 771-BSP110115; Mounting Technology: Surface Mount; Code_JEITA: SC-73; ComponentLink1Description: Manufacturer URL; ComponentLink1URL: http://www.nxp.com/; ComponentLink2Description: Datasheet; ComponentLink2URL: http://www.nxp.com/documents/data_sheet/BSP110.pdf; ComponentLink3Description: Package Specification; ComponentLink3URL: http://www.nxp.com/documents/outline_drawing/sot223_po.pdf
footprint NXP-SOT223_N (SOT223, 4-Leads, Body 6.7x3.7mm, Pitch 2.3mm, IPC Medium Density)
footprint NXP-SOT223_L (SOT223, 4-Leads, Body 6.7x3.7mm, Pitch 2.3mm, IPC High Density)
footprint NXP-SOT223_M (SOT223, 4-Leads, Body 6.7x3.7mm, Pitch 2.3mm, IPC Low Density)
pins: 1 G "gate", 2 D "drain", 3 S "source", 4 D "drain"
text: 2, 4

## BSP122,115
designator Q?
N-Channel Enhancement Mode Vertical D-MOS Transistor, 200 V, 0.55 A, 4-Pin SOT223, Tape and Reel; Manufacturer: NXP Semiconductors; PartNumber: BSP122,115; Channel Type: N; Ciss [typ] (pF): 100; Coss [typ] (pF): 20; ID [max] (A): 0.55; Packing: Tape & Reel; VDS [max] (V): 200; PackageVersion: 06-03-16, 03/2006; PackageReference: SOT223; PackageDescription: 4-Pin Small Outline Transistor Package, Body 6.5 x 3.5 mm, Pitch 2.3 mm; Supplier 1: Digi-Key; Supplier Part Number 1: 568-6849-2-ND; Supplier 2: Digi-Key; Supplier Part Number 2: 568-6849-1-ND; Supplier 3: Digi-Key; Supplier Part Number 3: 568-6849-6-ND; Supplier 4: Farnell; Supplier Part Number 4: 1758079; Supplier 5: Farnell; Supplier Part Number 5: 1758079RL; Supplier 6: Farnell; Supplier Part Number 6: 2135468; Supplier 7: Newark; Supplier Part Number 7: 75R4693; Supplier 8: Mouser; Supplier Part Number 8: 771-BSP122115; Mounting Technology: Surface Mount; Code_JEITA: SC-73; ComponentLink1Description: Manufacturer URL; ComponentLink1URL: http://www.nxp.com/; ComponentLink2Description: Datasheet; ComponentLink2URL: http://www.nxp.com/documents/data_sheet/BSP122.pdf; ComponentLink3Description: Package Specification; ComponentLink3URL: http://www.nxp.com/documents/outline_drawing/sot223_po.pdf
footprint NXP-SOT223_N (SOT223, 4-Leads, Body 6.7x3.7mm, Pitch 2.3mm, IPC Medium Density)
footprint NXP-SOT223_L (SOT223, 4-Leads, Body 6.7x3.7mm, Pitch 2.3mm, IPC High Density)
footprint NXP-SOT223_M (SOT223, 4-Leads, Body 6.7x3.7mm, Pitch 2.3mm, IPC Low Density)
pins: 1 G "gate", 2 D "drain", 3 S "source", 4 D "drain"
text: 2, 4

## BSP126,115
designator Q?
N-Channel Enhancement Mode Vertical D-MOS Transistor, 250 V, 0.375 A, 4-Pin SOT223, Tape and Reel; Manufacturer: NXP Semiconductors; PartNumber: BSP126,115; Channel Type: N; Ciss [typ] (pF): 100; Coss [typ] (pF): 21; ID [max] (A): 0.375; Packing: Tape & Reel; VDS [max] (V): 250; PackageVersion: 06-03-16, 03/2006; PackageReference: SOT223; PackageDescription: 4-Pin Small Outline Transistor Package, Body 6.5 x 3.5 mm, Pitch 2.3 mm; Supplier 1: Digi-Key; Supplier Part Number 1: 568-6219-2-ND; Supplier 2: Digi-Key; Supplier Part Number 2: 568-6219-1-ND; Supplier 3: Digi-Key; Supplier Part Number 3: 568-6219-6-ND; Supplier 4: Farnell; Supplier Part Number 4: 1758080; Supplier 5: Farnell; Supplier Part Number 5: 1758080RL; Supplier 6: Newark; Supplier Part Number 6: 34R3019; Supplier 7: Newark; Supplier Part Number 7: 70R2931; Supplier 8: Mouser; Supplier Part Number 8: 771-BSP126-T/R; Mounting Technology: Surface Mount; Code_JEITA: SC-73; ComponentLink1Description: Manufacturer URL; ComponentLink1URL: http://www.nxp.com/; ComponentLink2Description: Datasheet; ComponentLink2URL: http://www.nxp.com/documents/data_sheet/BSP126.pdf; ComponentLink3Description: Package Specification; ComponentLink3URL: http://www.nxp.com/documents/outline_drawing/sot223_po.pdf
footprint NXP-SOT223_N (SOT223, 4-Leads, Body 6.7x3.7mm, Pitch 2.3mm, IPC Medium Density)
footprint NXP-SOT223_L (SOT223, 4-Leads, Body 6.7x3.7mm, Pitch 2.3mm, IPC High Density)
footprint NXP-SOT223_M (SOT223, 4-Leads, Body 6.7x3.7mm, Pitch 2.3mm, IPC Low Density)
pins: 1 G "gate", 2 D "drain", 3 S "source", 4 D "drain"
text: 2, 4

## BSP126,135
designator Q?
N-Channel Enhancement Mode Vertical D-MOS Transistor, 250 V, 0.375 A, 4-Pin SOT223, Tape and Reel; Manufacturer: NXP Semiconductors; PartNumber: BSP126,135; Channel Type: N; Ciss [typ] (pF): 100; Coss [typ] (pF): 21; ID [max] (A): 0.375; Packing: Tape & Reel; VDS [max] (V): 250; PackageVersion: 06-03-16, 03/2006; PackageReference: SOT223; PackageDescription: 4-Pin Small Outline Transistor Package, Body 6.5 x 3.5 mm, Pitch 2.3 mm; Supplier 1: Digi-Key; Supplier Part Number 1: 568-6957-2-ND; Supplier 2: Digi-Key; Supplier Part Number 2: 568-6957-1-ND; Supplier 3: Digi-Key; Supplier Part Number 3: 568-6957-6-ND; Supplier 4: Mouser; Supplier Part Number 4: 771-BSP126135; Mounting Technology: Surface Mount; Code_JEITA: SC-73; ComponentLink1Description: Manufacturer URL; ComponentLink1URL: http://www.nxp.com/; ComponentLink2Description: Datasheet; ComponentLink2URL: http://www.nxp.com/documents/data_sheet/BSP126.pdf; ComponentLink3Description: Package Specification; ComponentLink3URL: http://www.nxp.com/documents/outline_drawing/sot223_po.pdf
footprint NXP-SOT223_N (SOT223, 4-Leads, Body 6.7x3.7mm, Pitch 2.3mm, IPC Medium Density)
footprint NXP-SOT223_L (SOT223, 4-Leads, Body 6.7x3.7mm, Pitch 2.3mm, IPC High Density)
footprint NXP-SOT223_M (SOT223, 4-Leads, Body 6.7x3.7mm, Pitch 2.3mm, IPC Low Density)
pins: 1 G "gate", 2 D "drain", 3 S "source", 4 D "drain"
text: 2, 4

## BSP130,115
designator Q?
N-Channel Enhancement Mode Vertical D-MOS Transistor, 300 V, 0.35 A, 4-Pin SOT223, Tape and Reel; Manufacturer: NXP Semiconductors; PartNumber: BSP130,115; Channel Type: N; Ciss [typ] (pF): 100; Coss [typ] (pF): 21; ID [max] (A): 0.35; Packing: Tape & Reel; VDS [max] (V): 300; PackageVersion: 06-03-16, 03/2006; PackageReference: SOT223; PackageDescription: 4-Pin Small Outline Transistor Package, Body 6.5 x 3.5 mm, Pitch 2.3 mm; Supplier 1: Digi-Key; Supplier Part Number 1: 568-6220-2-ND; Supplier 2: Digi-Key; Supplier Part Number 2: 568-6220-1-ND; Supplier 3: Digi-Key; Supplier Part Number 3: 568-6220-6-ND; Supplier 4: Farnell; Supplier Part Number 4: 1758082; Supplier 5: Farnell; Supplier Part Number 5: 1758082RL; Supplier 6: Farnell; Supplier Part Number 6: 2136115; Supplier 7: Newark; Supplier Part Number 7: 75R4695; Supplier 8: Mouser; Supplier Part Number 8: 771-BSP130115; Mounting Technology: Surface Mount; Code_JEITA: SC-73; ComponentLink1Description: Manufacturer URL; ComponentLink1URL: http://www.nxp.com/; ComponentLink2Description: Datasheet; ComponentLink2URL: http://www.nxp.com/documents/data_sheet/BSP130.pdf; ComponentLink3Description: Package Specification; ComponentLink3URL: http://www.nxp.com/documents/outline_drawing/sot223_po.pdf
footprint NXP-SOT223_N (SOT223, 4-Leads, Body 6.7x3.7mm, Pitch 2.3mm, IPC Medium Density)
footprint NXP-SOT223_L (SOT223, 4-Leads, Body 6.7x3.7mm, Pitch 2.3mm, IPC High Density)
footprint NXP-SOT223_M (SOT223, 4-Leads, Body 6.7x3.7mm, Pitch 2.3mm, IPC Low Density)
pins: 1 G "gate", 2 D "drain", 3 S "source", 4 D "drain"
text: 2, 4

## BSP220,115
designator Q?
P-Channel Enhancement Mode Vertical D-MOS Transistor, -200 V, -0.225 A, 4-Pin SOT223, Tape and Reel; Manufacturer: NXP Semiconductors; PartNumber: BSP220,115; Channel Type: P; Ciss [typ] (pF): 65; Coss [typ] (pF): 20; Packing: Tape & Reel; PackageVersion: 06-03-16, 03/2006; PackageReference: SOT223; PackageDescription: 4-Pin Small Outline Transistor Package, Body 6.5 x 3.5 mm, Pitch 2.3 mm; Supplier 1: Digi-Key; Supplier Part Number 1: 568-6221-2-ND; Supplier 2: Digi-Key; Supplier Part Number 2: 568-6221-1-ND; Supplier 3: Digi-Key; Supplier Part Number 3: 568-6221-6-ND; Supplier 4: Farnell; Supplier Part Number 4: 1758083; Supplier 5: Farnell; Supplier Part Number 5: 1758083RL; Supplier 6: Newark; Supplier Part Number 6: 79R1839; Supplier 7: Mouser; Supplier Part Number 7: 771-BSP220115; ID [max] (A): -0.225; VDS [max] (V): -200; Mounting Technology: Surface Mount; Code_JEITA: SC-73; ComponentLink1Description: Manufacturer URL; ComponentLink1URL: http://www.nxp.com/; ComponentLink2Description: Datasheet; ComponentLink2URL: http://www.nxp.com/documents/data_sheet/BSP220_CNV.pdf; ComponentLink3Description: Package Specification; ComponentLink3URL: http://www.nxp.com/documents/outline_drawing/sot223_po.pdf
footprint NXP-SOT223_N (SOT223, 4-Leads, Body 6.7x3.7mm, Pitch 2.3mm, IPC Medium Density)
footprint NXP-SOT223_L (SOT223, 4-Leads, Body 6.7x3.7mm, Pitch 2.3mm, IPC High Density)
footprint NXP-SOT223_M (SOT223, 4-Leads, Body 6.7x3.7mm, Pitch 2.3mm, IPC Low Density)
pins: 1 G "gate", 2 D "drain", 3 S "source", 4 D "drain"
text: 2, 4

## BSP225,115
designator Q?
P-Channel Enhancement Mode Vertical D-MOS Transistor, -250 V, -0.225 A, 4-Pin SOT223, Tape and Reel; Manufacturer: NXP Semiconductors; PartNumber: BSP225,115; Channel Type: P; Ciss [typ] (pF): 65; Coss [typ] (pF): 20; Packing: Tape & Reel; PackageVersion: 06-03-16, 03/2006; PackageReference: SOT223; PackageDescription: 4-Pin Small Outline Transistor Package, Body 6.5 x 3.5 mm, Pitch 2.3 mm; Supplier 1: Digi-Key; Supplier Part Number 1: 568-6838-2-ND; Supplier 2: Digi-Key; Supplier Part Number 2: 568-6838-1-ND; Supplier 3: Digi-Key; Supplier Part Number 3: 568-6838-6-ND; Supplier 4: Farnell; Supplier Part Number 4: 1758084RL; Supplier 5: Farnell; Supplier Part Number 5: 1758084; Supplier 6: Farnell; Supplier Part Number 6: 2395535; Supplier 7: Newark; Supplier Part Number 7: 79R1840; Supplier 8: Mouser; Supplier Part Number 8: 771-BSP225115; ID [max] (A): -0.225; VDS [max] (V): -250; Mounting Technology: Surface Mount; Code_JEITA: SC-73; ComponentLink1Description: Manufacturer URL; ComponentLink1URL: http://www.nxp.com/; ComponentLink2Description: Datasheet; ComponentLink2URL: http://www.nxp.com/documents/data_sheet/BSP225_CNV.pdf; ComponentLink3Description: Package Specification; ComponentLink3URL: http://www.nxp.com/documents/outline_drawing/sot223_po.pdf
footprint NXP-SOT223_N (SOT223, 4-Leads, Body 6.7x3.7mm, Pitch 2.3mm, IPC Medium Density)
footprint NXP-SOT223_L (SOT223, 4-Leads, Body 6.7x3.7mm, Pitch 2.3mm, IPC High Density)
footprint NXP-SOT223_M (SOT223, 4-Leads, Body 6.7x3.7mm, Pitch 2.3mm, IPC Low Density)
pins: 1 G "gate", 2 D "drain", 3 S "source", 4 D "drain"
text: 2, 4

## BSP230,135
designator Q?
P-Channel Enhancement Mode Vertical D-MOS Transistor, -300 V, -0.21 A, 4-Pin SOT223, Tape and Reel; Manufacturer: NXP Semiconductors; PartNumber: BSP230,135; Channel Type: P; Ciss [typ] (pF): 60; Coss [typ] (pF): 15; Packing: Tape & Reel; PackageVersion: 06-03-16, 03/2006; PackageReference: SOT223; PackageDescription: 4-Pin Small Outline Transistor Package, Body 6.5 x 3.5 mm, Pitch 2.3 mm; Supplier 1: Digi-Key; Supplier Part Number 1: 568-6959-2-ND; Supplier 2: Digi-Key; Supplier Part Number 2: 568-6959-1-ND; Supplier 3: Digi-Key; Supplier Part Number 3: 568-6959-6-ND; Supplier 4: Farnell; Supplier Part Number 4: 1758085RL; Supplier 5: Farnell; Supplier Part Number 5: 2136449; Supplier 6: Newark; Supplier Part Number 6: 75R4696; Supplier 7: Mouser; Supplier Part Number 7: 771-BSP230135; ID [max] (A): -0.21; VDS [max] (V): -300; Mounting Technology: Surface Mount; Code_JEITA: SC-73; ComponentLink1Description: Manufacturer URL; ComponentLink1URL: http://www.nxp.com/; ComponentLink2Description: Datasheet; ComponentLink2URL: http://www.nxp.com/documents/data_sheet/BSP230.pdf; ComponentLink3Description: Package Specification; ComponentLink3URL: http://www.nxp.com/documents/outline_drawing/sot223_po.pdf
footprint NXP-SOT223_N (SOT223, 4-Leads, Body 6.7x3.7mm, Pitch 2.3mm, IPC Medium Density)
footprint NXP-SOT223_L (SOT223, 4-Leads, Body 6.7x3.7mm, Pitch 2.3mm, IPC High Density)
footprint NXP-SOT223_M (SOT223, 4-Leads, Body 6.7x3.7mm, Pitch 2.3mm, IPC Low Density)
pins: 1 G "gate", 2 D "drain", 3 S "source", 4 D "drain"
text: 2, 4